# Altium footprint library DIP8-tiny_1.PcbLib: 1 footprints
Each footprint in its own frame and in the unit in brackets; x right, y up, seen from the top. Pads: shape width x height; smd on the part's side, far side on the other; paste and mask are expansions set on the pad; w line width, h text height; cw(c..) or ccw(c..) is an arc to the next point about the centre after c.
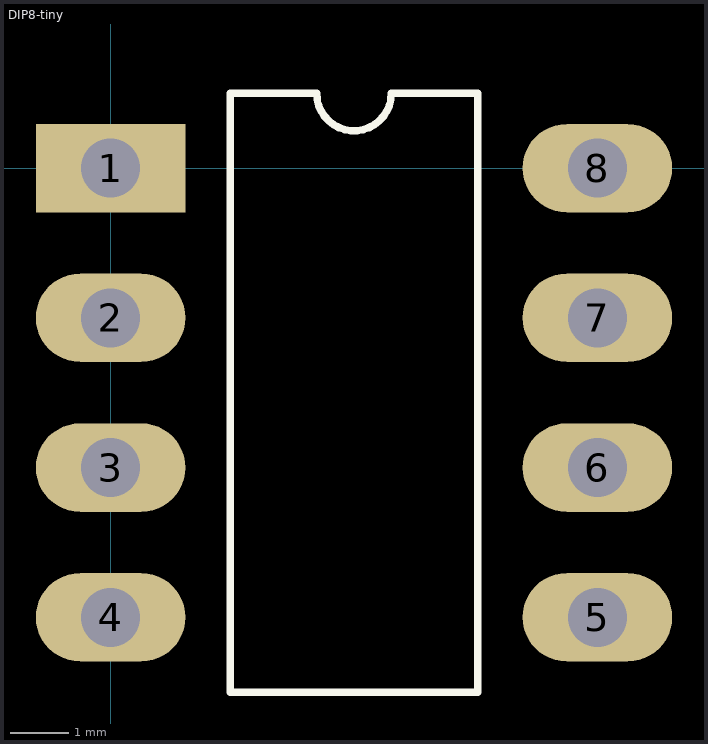
[diagram p0: the footprint, top view; thin cyan lines are the x and y axes]

## DIP8-tiny [mm]
pads (8):
  rect 2.54x1.5 hole 1: 1(0,0)
  oval 2.54x1.5 hole 1: 2(0,-2.54) 3(0,-5.08) 4(0,-7.62) 5(8.255,-7.62) 6(8.255,-5.08) 7(8.255,-2.54) 8(8.255,0)
Top Overlay:
  lines w0.127: 2.032,-8.89 6.223,-8.89 6.223,1.27 4.763,1.27 cw(c4.127,1.27) 3.492,1.27 2.032,1.27 2.032,-8.89